# Altium schematic symbol library Kelboy.SchLib: 67 symbols (part 2 of 3)
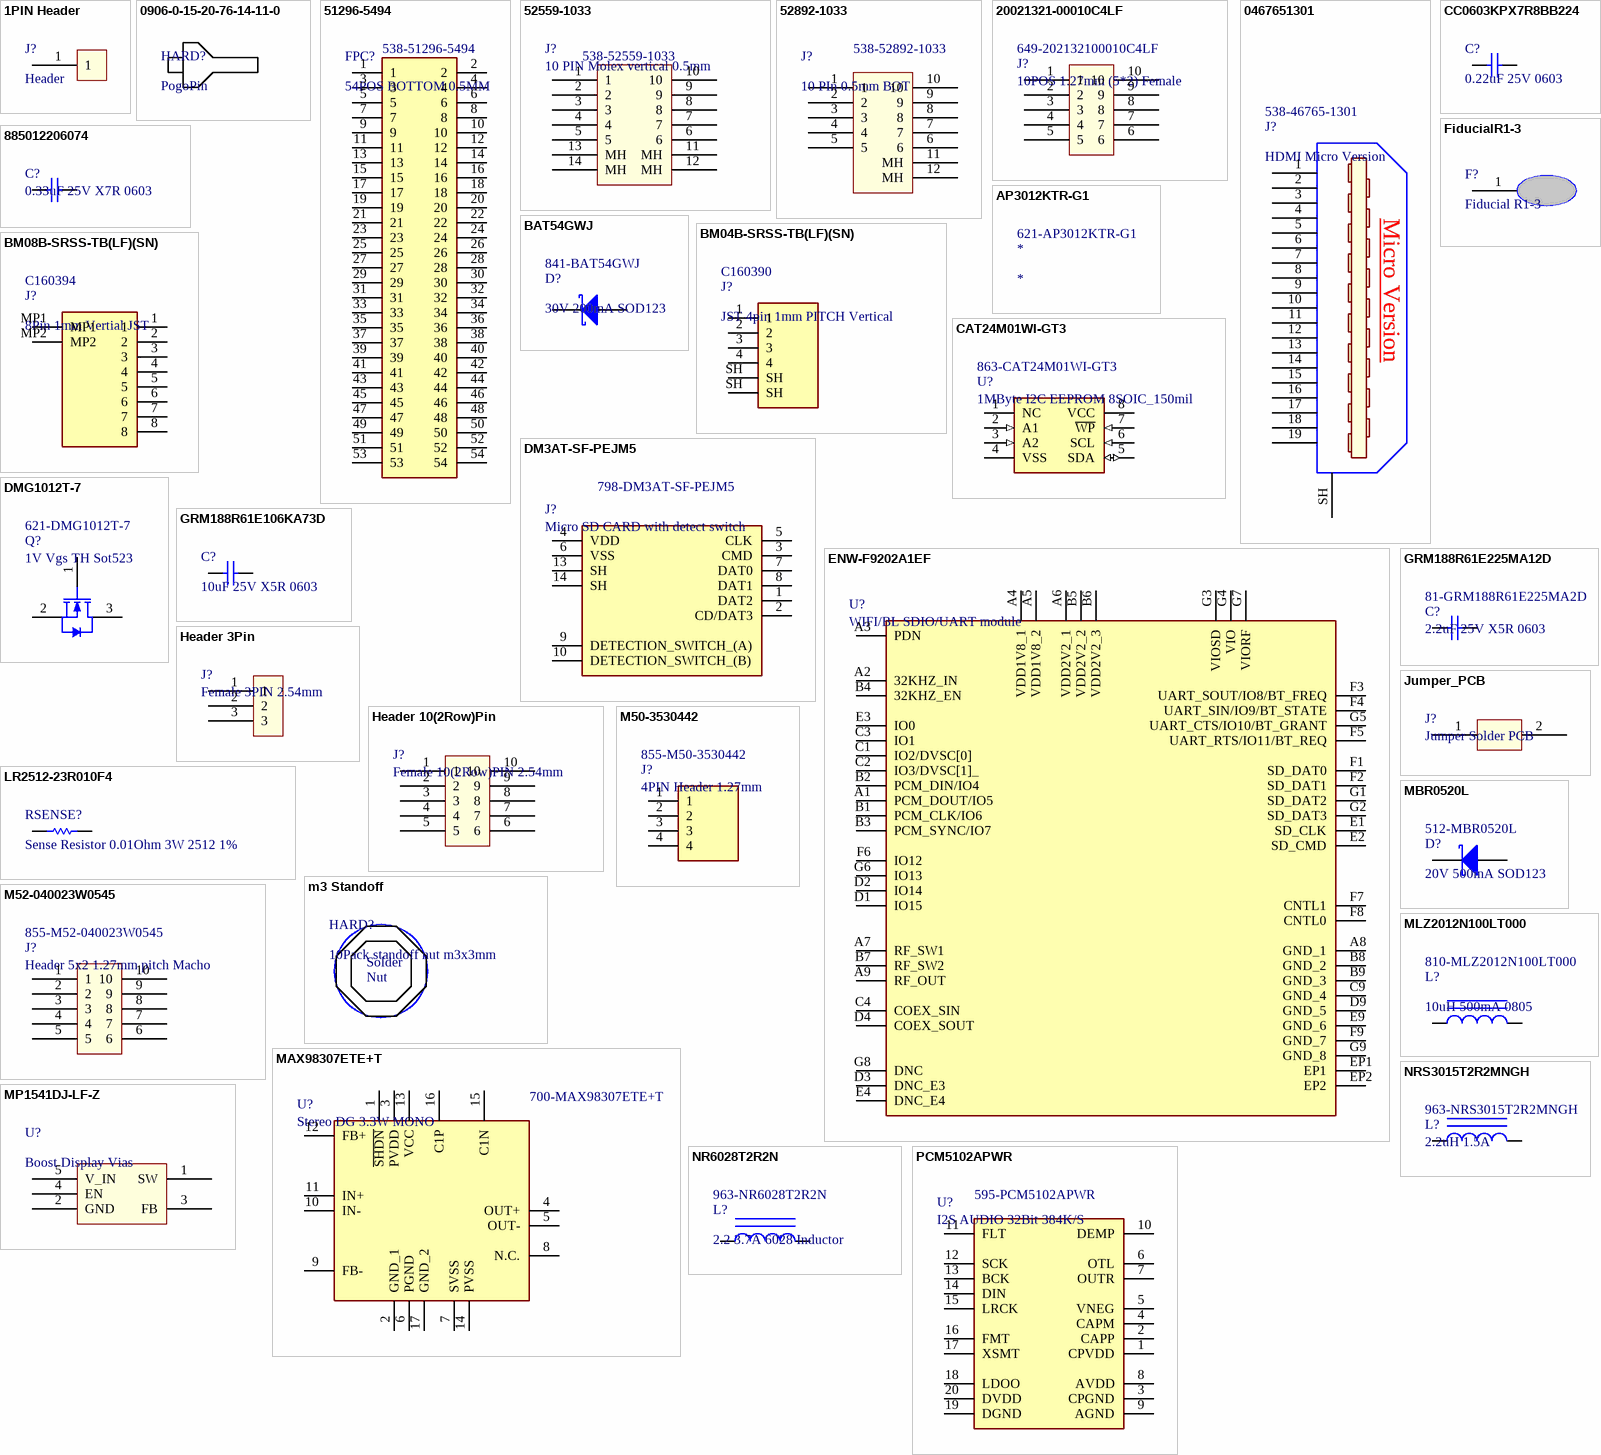
[diagram p3: symbols 1PIN Header to PCM5102APWR]

## PCM5102APWR
designator U?, comment I2S AUDIO 32Bit 384K/S  Supplier Part Number 1: 595-PCM5102APWR
IC DAC 16/24/32BIT SRL 20TSSOP; Manufacturer 1: Texas Instruments; Manufacturer Part Number 1: PCM5102APWR; Number of DAC Channels: 2; Max Power Dissipation: 187mW; Interface: Serial,I2S; Resolution: 32b; Signal to Noise Ratio (SNR): 112dB; Supply Type: Analog,Digital; Conversion Rate: 384KS/s; Power Consumption: 59.4mW; Max Supply Voltage: 3.6V; Operating Supply Voltage: 3.3V; Min Supply Voltage: 3V; Number of Analog Inputs: 0; Output Type: Voltage; Number of Bits: 32; Polarity: Unipolar; Supplier 1: Mouser; Stock 1: 3243; Pricing 1: 1=5,56000, 10=5,00000, 50=5,00000, 100=4,09000, 250=3,84000, 500=3,48000, 1000=2,94000, 2000=2,79000, 4000=2,68000, 10000=2,52000 (USD); RoHS: Yes; Mount: Surface Mount; Case/Package: TSSOP; Number of Pins: 20; Contact Plating: Gold; Min Operating Temperature: -25°C; Max Operating Temperature: 85°C; Package Quantity: 2000; Packaging: Tape and Reel; Number of Converters: 2; Number of Analog Outputs: 2; Sampling Rate: 384KS/s; Lead Free: Lead Free; REACH SVHC: No SVHC; ComponentLink1URL: https://datasheet.ciiva.com/24021/slas859a-261040-24021907.pdf?src-supplier=Mouser; ComponentLink1Description: https://datasheet.ciiva.com/24021/slas859a-261040-24021907.pdf?src-supplier=Mouser; ComponentLink2URL: https://datasheet.ciiva.com/29648/pcm5102a-29648362.pdf?src-supplier=Digi-Key; ComponentLink2Description: https://datasheet.ciiva.com/29648/pcm5102a-29648362.pdf?src-supplier=Digi-Key; ComponentLink3URL: https://datasheet.ciiva.com/6673/pcm5102a-6673611.pdf?src-supplier=Digi-Key; ComponentLink3Description: https://datasheet.ciiva.com/6673/pcm5102a-6673611.pdf?src-supplier=Digi-Key
footprint SOP65P640X120-20N
pins: 1 CPVDD, 2 CAPP, 3 CPGND, 4 CAPM, 5 VNEG, 6 OTL, 7 OUTR, 8 AVDD, 9 AGND, 10 DEMP, 11 FLT, 12 SCK, 13 BCK, 14 DIN, 15 LRCK, 16 FMT, 17 XSMT, 18 LDOO, 19 DGND, 20 DVDD

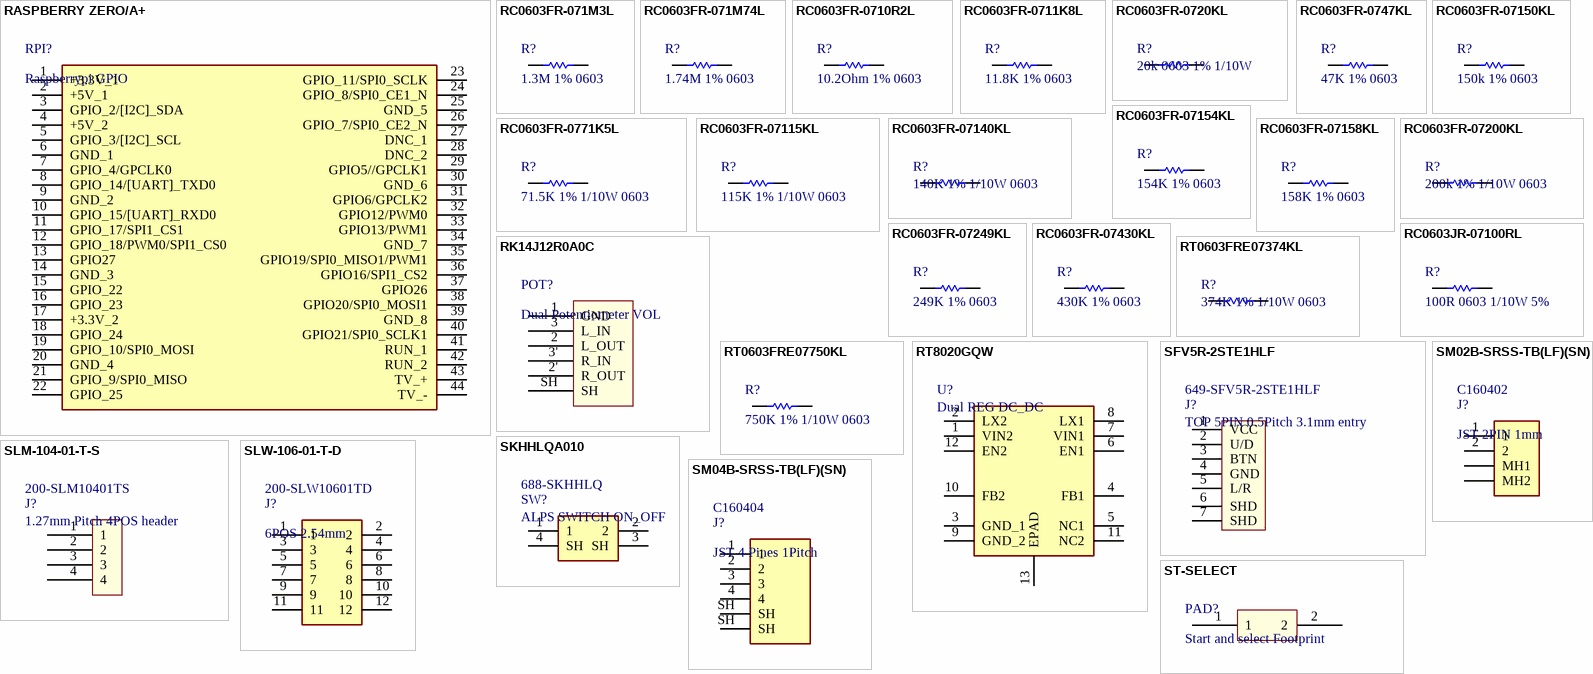
[diagram p1: symbols RASPBERRY ZERO/A+ to ST-SELECT]

## RASPBERRY ZERO/A+
designator RPI?, comment Raspberrypi GPIO
footprint RASPBERRYPIZEROWV13
pins: 1 +3.3V_1, 2 +5V_1, 3 GPIO_2/[I2C]_SDA, 4 +5V_2, 5 GPIO_3/[I2C]_SCL, 6 GND_1, 7 GPIO_4/GPCLK0, 8 GPIO_14/[UART]_TXD0, 9 GND_2, 10 GPIO_15/[UART]_RXD0, 11 GPIO_17/SPI1_CS1, 12 GPIO_18/PWM0/SPI1_CS0, 13 GPIO27, 14 GND_3, 15 GPIO_22, 16 GPIO_23, 17 +3.3V_2, 18 GPIO_24, 19 GPIO_10/SPI0_MOSI, 20 GND_4, 21 GPIO_9/SPI0_MISO, 22 GPIO_25, 23 GPIO_11/SPI0_SCLK, 24 GPIO_8/SPI0_CE1_N, 25 GND_5, 26 GPIO_7/SPI0_CE2_N, 27 DNC_1, 28 DNC_2, 29 GPIO5//GPCLK1, 30 GND_6, 31 GPIO6/GPCLK2, 32 GPIO12/PWM0, 33 GPIO13/PWM1, 34 GND_7, 35 GPIO19/SPI0_MISO1/PWM1, 36 GPIO16/SPI1_CS2, 37 GPIO26, 38 GPIO20/SPI0_MOSI1, 39 GND_8, 40 GPIO21/SPI0_SCLK1, 41 RUN_1, 42 RUN_2, 43 TV_+, 44 TV_-

## RC0603FR-071M3L
designator R?, comment 1.3M 1% 0603
Res Thick Film 0603 1.3M Ohm 1% 1/10W ?100ppm/C Molded SMD SMD Paper T/R; Manufacturer 1: Yageo; Manufacturer Part Number 1: RC0603FR-071M3L; Voltage Rating: 75V; Resistance: 1.3MR; Power Rating: 100mW; Temperature Coefficient: 100ppm/°C; Supplier 1: Mouser; Stock 1: 81570; Pricing 1: 1=0.10000, 10=0.01800, 50=0.01800, 100=0.00600, 1000=0.00500, 5000=0.00300, 10000=0.00300, 50000=0.00200 (USD); RoHS: Yes; Case/Package: 0603; Weight: 7.1E-05oz; Case Code (Imperial): 0603; Case Code (Metric): 1608; Min Operating Temperature: -55°C; Max Operating Temperature: 155°C; Packaging: Tape and Reel; Tolerance: 1%; Composition: Thick Film; Number of Terminations: 2; Termination: SMD/SMT; Military Standard: Not; Max Power Dissipation: 100mW; Features: Moisture Resistant; Length: 1.6mm; Height: 0.022inch; Width: 0.031inch; Depth: 0.8mm; Lead Free: Lead Free; ComponentLink1URL: http://components.arrow.com/part/dataview/0323_03542867?src-supplier=Arrow+Europe; ComponentLink1Description: http://components.arrow.com/part/dataview/0323_03542867?src-supplier=Arrow+Europe; ComponentLink2URL: http://www.mouser.com/ds/2/447/RC0603-272842.pdf?src-supplier=Mouser; ComponentLink2Description: http://www.mouser.com/ds/2/447/RC0603-272842.pdf?src-supplier=Mouser; ComponentLink3URL: http://www.yageo.com.tw/exep/pages/download/literatures/PYu-R_INT-thick_7.pdf?src-supplier=Digi-Key; ComponentLink3Description: http://www.yageo.com.tw/exep/pages/download/literatures/PYu-R_INT-thick_7.pdf?src-supplier=Digi-Key; ComponentLink4URL: http://www.yageo.com/documents/recent/PYu-RC_Group_51_RoHS_L_9.pdf?src-supplier=Digi-Key; ComponentLink4Description: http://www.yageo.com/documents/recent/PYu-RC_Group_51_RoHS_L_9.pdf?src-supplier=Digi-Key; Supplier Part Number 1: 603-RC0603FR-071M3L
footprint R 0603/1608
pins: 1, 2

## RC0603FR-071M74L
designator R?, comment 1.74M 1% 0603
Thick Film Resistors - SMD 1.74M OHM 1%; Manufacturer 1: Yageo; Manufacturer Part Number 1: RC0603FR-071M74L; Resistance: 1.74MR; Temperature Coefficient: 100ppm/°C; Power Rating: 100mW; Voltage Rating: 50V; Supplier 1: Mouser; Stock 1: 19263; Pricing 1: 1=0.10000, 10=0.01800, 50=0.01800, 100=0.00600, 1000=0.00500, 10000=0.00300 (USD); RoHS: Yes; Case/Package: 0603; Contact Plating: Tin; Case Code (Imperial): 0603; Case Code (Metric): 1608; Min Operating Temperature: -55°C; Max Operating Temperature: 155°C; Tolerance: 1%; Composition: Thick Film; Packaging: Tape and Reel; Termination: SMD/SMT; Number of Terminations: 2; Max Power Dissipation: 100mW; Features: Moisture Resistant; Length: 0.063inch; Height: 0.022inch; Width: 0.8mm; Radiation Hardening: No; ComponentLink1URL: https://datasheet.ciiva.com/12560/rc0603-272842-12560411.pdf?src-supplier=Mouser; ComponentLink1Description: https://datasheet.ciiva.com/12560/rc0603-272842-12560411.pdf?src-supplier=Mouser; Supplier Part Number 1: 603-RC0603FR-071M74L
footprint R 0603/1608
pins: 1, 2

## RC0603FR-0710R2L
designator R?, comment 10.2Ohm 1% 0603
RES SMD 10.2 OHM 1% 1/10W 0603; Manufacturer 1: Yageo; Manufacturer Part Number 1: RC0603FR-0710R2L; Resistance: 10.2R; Temperature Coefficient: 100ppm/°C; Power Rating: 100mW; Voltage Rating: 50V; Supplier 1: Mouser; Stock 1: 27905; Pricing 1: 1=0.10000, 10=0.01800, 50=0.01800, 100=0.00600, 1000=0.00500, 5000=0.00300, 10000=0.00300, 50000=0.00200 (USD); RoHS: Yes; Case/Package: 0603; Contact Plating: Tin; Case Code (Imperial): 0603; Case Code (Metric): 1608; Min Operating Temperature: -55°C; Max Operating Temperature: 155°C; Tolerance: 1%; Composition: Thick Film; Packaging: Tape and Reel; Termination: SMD/SMT; Military Standard: Not; Voltage Rating (DC): 50V; Length: 1.6mm; Height: 0.45mm; Width: 0.8mm; Depth: 0.8mm; Radiation Hardening: No; Lead Free: Lead Free; ComponentLink1URL: https://datasheet.ciiva.com/12575/rc0603-272842-12575110.pdf?src-supplier=Mouser; ComponentLink1Description: https://datasheet.ciiva.com/12575/rc0603-272842-12575110.pdf?src-supplier=Mouser; Supplier Part Number 1: 603-RC0603FR-0710R2L
footprint R 0603/1608
pins: 1, 2

## RC0603FR-0711K8L
designator R?, comment 11.8K 1% 0603
RES SMD 11.8K OHM 1% 1/10W 0603; Manufacturer 1: Yageo; Manufacturer Part Number 1: RC0603FR-0711K8L; Resistance: 11.8kR; Power Rating: 100mW; Voltage Rating: 50V; Temperature Coefficient: 100ppm/°C; Supplier 1: Mouser; Stock 1: 216746; Pricing 1: 1=0.10000, 10=0.01800, 50=0.01800, 100=0.00600, 1000=0.00500, 10000=0.00300 (USD); RoHS: Yes; Case/Package: 0603; Case Code (Imperial): 0603; Case Code (Metric): 1608; Min Operating Temperature: -55°C; Max Operating Temperature: 155°C; Tolerance: 1%; Packaging: Tape and Reel; Termination: SMD/SMT; Composition: Thick Film; Military Standard: Not; Voltage Rating (DC): 50V; Length: 1.6mm; Depth: 0.8mm; Lead Free: Lead Free; ComponentLink1URL: http://www.mouser.com/ds/2/447/RC0603-272842.pdf?src-supplier=Mouser; ComponentLink1Description: http://www.mouser.com/ds/2/447/RC0603-272842.pdf?src-supplier=Mouser; ComponentLink2URL: http://components.arrow.com/part/dataview/0323_03538290?src-supplier=Arrow+Europe; ComponentLink2Description: http://components.arrow.com/part/dataview/0323_03538290?src-supplier=Arrow+Europe; ComponentLink3URL: http://www.yageo.com/documents/recent/PYu-RC_Group_51_RoHS_L_9.pdf?src-supplier=Digi-Key; ComponentLink3Description: http://www.yageo.com/documents/recent/PYu-RC_Group_51_RoHS_L_9.pdf?src-supplier=Digi-Key; ComponentLink4URL: http://www.yageo.com/documents/recent/PYu-RC_Group_51_RoHS_L_10.pdf?src-supplier=Digi-Key; ComponentLink4Description: http://www.yageo.com/documents/recent/PYu-RC_Group_51_RoHS_L_10.pdf?src-supplier=Digi-Key; ComponentLink5URL: http://www.yageo.com/documents/recent/PYu-RC0603_51_RoHS_L_7.pdf?src-supplier=Future+Electronics; ComponentLink5Description: http://www.yageo.com/documents/recent/PYu-RC0603_51_RoHS_L_7.pdf?src-supplier=Future+Electronics; Supplier Part Number 1: 603-RC0603FR-0711K8L
footprint R 0603/1608
pins: 1, 2

## RC0603FR-0720KL
designator R?, comment 20k 0603 1% 1/10W
RES SMD 20K OHM 1% 1/10W 0603; Manufacturer 1: Yageo; Manufacturer Part Number 1: RC0603FR-0720KL; Resistance: 20kR; Temperature Coefficient: 100ppm/°C; Voltage Rating (DC): 50V; Power Rating: 100mW; Supplier 1: Mouser; RoHS: Yes; Category: Chip SMD Resistors; Stock 1: 754329; Pricing 1: 1=0,10000, 10=0,01800, 100=0,00600, 1000=0,00500, 5000=0,00300, 10000=0,00300 (USD); Case/Package: 0603; Number of Pins: 2; Case Code (Imperial): 0603; Case Code (Metric): 1608; Min Operating Temperature: -55°C; Max Operating Temperature: 155°C; Tolerance: 1%; Composition: Thick Film; Packaging: Tape and Reel; Voltage Rating: 50V; Package Quantity: 1; Termination: SMD/SMT; Number of Terminations: 2; Military Standard: Not; Max Power Dissipation: 100mW; Features: Moisture Resistant; Length: 0.063inch; Height: 0.022inch; Width: 0.031inch; Depth: 0.8mm; Lead Free: Lead Free; REACH SVHC: No SVHC; ComponentLink1URL: https://datasheet.ciiva.com/11808/0900766b80f96399-11808275.pdf?src-supplier=RSComponents; ComponentLink1Description: https://datasheet.ciiva.com/11808/0900766b80f96399-11808275.pdf?src-supplier=RSComponents; ComponentLink2URL: https://datasheet.ciiva.com/22747/443971-22747525.pdf?src-supplier=Element14; ComponentLink2Description: https://datasheet.ciiva.com/22747/443971-22747525.pdf?src-supplier=Element14; ComponentLink3URL: https://datasheet.ciiva.com/2453/pyu-r-int-thick-7-2453910.pdf?src-supplier=Digi-Key; ComponentLink3Description: https://datasheet.ciiva.com/2453/pyu-r-int-thick-7-2453910.pdf?src-supplier=Digi-Key; ComponentLink4URL: https://datasheet.ciiva.com/2453/pyu-r-int-thick-7-2453911.pdf?src-supplier=Digi-Key; ComponentLink4Description: https://datasheet.ciiva.com/2453/pyu-r-int-thick-7-2453911.pdf?src-supplier=Digi-Key; ComponentLink5URL: https://datasheet.ciiva.com/2453/pyu-r-int-thick-7-2453912.pdf?src-supplier=Digi-Key; ComponentLink5Description: https://datasheet.ciiva.com/2453/pyu-r-int-thick-7-2453912.pdf?src-supplier=Digi-Key; Supplier Part Number 1: 603-RC0603FR-0720KL
footprint R 0603/1608
pins: 1, 2

## RC0603FR-0747KL
designator R?, comment 47K 1% 0603
RES SMD 47K OHM 1% 1/10W 0603; Manufacturer 1: Yageo; Manufacturer Part Number 1: RC0603FR-0747KL; Resistance: 47kR; Temperature Coefficient: 100ppm/°C; Voltage Rating (DC): 50V; Power Rating: 100mW; Supplier 1: Mouser; Stock 1: 2958829; Pricing 1: 1=0.10000, 10=0.01800, 50=0.01800, 100=0.00600, 1000=0.00500, 5000=0.00300, 10000=0.00300, 50000=0.00200 (USD); RoHS: Yes; Case/Package: 0603; Number of Pins: 2; Case Code (Metric): 1608; Case Code (Imperial): 0603; Min Operating Temperature: -55°C; Max Operating Temperature: 155°C; Tolerance: 1%; Composition: Thick Film; Packaging: Tape and Reel; Voltage Rating: 50V; Package Quantity: 1; Number of Terminations: 2; Termination: SMD/SMT; Military Standard: Not; Max Power Dissipation: 100mW; Features: Moisture Resistant; Length: 1.6mm; Height: 0.022inch; Width: 0.031inch; Depth: 0.8mm; REACH SVHC: Unknown; Lead Free: Lead Free; ComponentLink1URL: https://datasheet.ciiva.com/11808/0900766b80f96399-11808118.pdf?src-supplier=RSComponents; ComponentLink1Description: https://datasheet.ciiva.com/11808/0900766b80f96399-11808118.pdf?src-supplier=RSComponents; ComponentLink2URL: https://datasheet.ciiva.com/7746/443971-7746361.pdf?src-supplier=Element14; ComponentLink2Description: https://datasheet.ciiva.com/7746/443971-7746361.pdf?src-supplier=Element14; ComponentLink3URL: https://datasheet.ciiva.com/7746/443971-7746362.pdf?src-supplier=Element14; ComponentLink3Description: https://datasheet.ciiva.com/7746/443971-7746362.pdf?src-supplier=Element14; ComponentLink4URL: https://datasheet.ciiva.com/2453/pyu-r-int-thick-7-2453931.pdf?src-supplier=Digi-Key; ComponentLink4Description: https://datasheet.ciiva.com/2453/pyu-r-int-thick-7-2453931.pdf?src-supplier=Digi-Key; ComponentLink5URL: https://datasheet.ciiva.com/2453/pyu-r-int-thick-7-2453932.pdf?src-supplier=Digi-Key; ComponentLink5Description: https://datasheet.ciiva.com/2453/pyu-r-int-thick-7-2453932.pdf?src-supplier=Digi-Key; ComponentLink6URL: https://datasheet.ciiva.com/2453/pyu-r-int-thick-7-2453933.pdf?src-supplier=Digi-Key; ComponentLink6Description: https://datasheet.ciiva.com/2453/pyu-r-int-thick-7-2453933.pdf?src-supplier=Digi-Key; Supplier Part Number 1: 603-RC0603FR-0747KL
footprint R 0603/1608
pins: 1, 2

## RC0603FR-0771K5L
designator R?, comment 71.5K 1% 1/10W 0603
RES SMD 71.5K OHM 1% 1/10W 0603; Manufacturer 1: Yageo; Manufacturer Part Number 1: RC0603FR-0771K5L; Resistance: 71.5kR; Power Rating: 100mW; Voltage Rating: 75V; Temperature Coefficient: 100ppm/°C; Voltage Rating (DC): 50V; Supplier 1: Mouser; Stock 1: 99016; Pricing 1: 1=0,10000, 10=0,01800, 50=0,01800, 100=0,00600, 1000=0,00500, 5000=0,00300, 10000=0,00300, 50000=0,00200 (USD); RoHS: Yes; Case/Package: 0603; Weight: 7.1E-05oz; Case Code (Metric): 1608; Case Code (Imperial): 0603; Min Operating Temperature: -55°C; Max Operating Temperature: 155°C; Package Quantity: 1; Tolerance: 1%; Packaging: Tape and Reel; Composition: Thick Film; Number of Terminations: 2; Termination: SMD/SMT; Max Power Dissipation: 100mW; Features: Moisture Resistant; Length: 0.063inch; Height: 0.022inch; Width: 0.031inch; Lead Free: Lead Free; ComponentLink1URL: https://datasheet.ciiva.com/2455/pyu-r-int-thick-7-2455233.pdf?src-supplier=Digi-Key; ComponentLink1Description: https://datasheet.ciiva.com/2455/pyu-r-int-thick-7-2455233.pdf?src-supplier=Digi-Key; ComponentLink2URL: https://datasheet.ciiva.com/2455/pyu-r-int-thick-7-2455234.pdf?src-supplier=Digi-Key; ComponentLink2Description: https://datasheet.ciiva.com/2455/pyu-r-int-thick-7-2455234.pdf?src-supplier=Digi-Key; ComponentLink3URL: https://datasheet.ciiva.com/2455/pyu-r-int-thick-7-2455235.pdf?src-supplier=Digi-Key; ComponentLink3Description: https://datasheet.ciiva.com/2455/pyu-r-int-thick-7-2455235.pdf?src-supplier=Digi-Key; Supplier Part Number 1: 603-RC0603FR-0771K5L
footprint R 0603/1608
pins: 1, 2

## RC0603FR-07115KL
designator R?, comment 115K 1% 1/10W 0603
RES SMD 115K OHM 1% 1/10W 0603; Manufacturer 1: Yageo; Manufacturer Part Number 1: RC0603FR-07115KL; Resistance: 115kR; Temperature Coefficient: 100ppm/°C; Power Rating: 100mW; Voltage Rating: 50V; Supplier 1: Mouser; Stock 1: 33101; Pricing 1: 1=0,10000, 10=0,01800, 50=0,01800, 100=0,00600, 1000=0,00500, 10000=0,00300 (USD); RoHS: Yes; Case/Package: 0603; Contact Plating: Tin,Matte; Case Code (Metric): 1608; Case Code (Imperial): 0603; Min Operating Temperature: -55°C; Max Operating Temperature: 155°C; Tolerance: 1%; Composition: Thick Film; Package Quantity: 1; Packaging: Tape and Reel; Number of Terminations: 2; Termination: SMD/SMT; Military Standard: Not; Max Power Dissipation: 100mW; Voltage Rating (DC): 50V; Features: Moisture Resistant; Length: 0.063inch; Height: 0.022inch; Width: 0.031inch; Depth: 0.8mm; Lead Free: Lead Free; ComponentLink1URL: https://datasheet.ciiva.com/2455/pyu-r-int-thick-7-2455088.pdf?src-supplier=Digi-Key; ComponentLink1Description: https://datasheet.ciiva.com/2455/pyu-r-int-thick-7-2455088.pdf?src-supplier=Digi-Key; ComponentLink2URL: https://datasheet.ciiva.com/8887/pyu-rc0603-51-rohs-l-4-8887692.pdf?src-supplier=Avnet; ComponentLink2Description: https://datasheet.ciiva.com/8887/pyu-rc0603-51-rohs-l-4-8887692.pdf?src-supplier=Avnet; ComponentLink3URL: https://datasheet.ciiva.com/28394/pyu-rc0603-51-rohs-l-4-28394989.pdf?src-supplier=Avnet+Europe; ComponentLink3Description: https://datasheet.ciiva.com/28394/pyu-rc0603-51-rohs-l-4-28394989.pdf?src-supplier=Avnet+Europe; ComponentLink4URL: https://datasheet.ciiva.com/2455/pyu-r-int-thick-7-2455086.pdf?src-supplier=Digi-Key; ComponentLink4Description: https://datasheet.ciiva.com/2455/pyu-r-int-thick-7-2455086.pdf?src-supplier=Digi-Key; ComponentLink5URL: https://datasheet.ciiva.com/2455/pyu-r-int-thick-7-2455087.pdf?src-supplier=Digi-Key; ComponentLink5Description: https://datasheet.ciiva.com/2455/pyu-r-int-thick-7-2455087.pdf?src-supplier=Digi-Key; Supplier Part Number 1: 603-RC0603FR-07115KL
footprint R 0603/1608
pins: 1, 2

## RC0603FR-07140KL
designator R?, comment 140K 1% 1/10W 0603
RES SMD 140K OHM 1% 1/10W 0603; Manufacturer 1: Yageo; Manufacturer Part Number 1: RC0603FR-07140KL; Power Rating: 100mW; Resistance: 140kR; Voltage Rating: 50V; Temperature Coefficient: 100ppm/°C; Supplier 1: Mouser; Stock 1: 123280; Pricing 1: 1=0,10000, 10=0,01800, 50=0,01800, 100=0,00600, 1000=0,00500, 10000=0,00300 (USD); RoHS: Yes; Case/Package: 0603; Case Code (Imperial): 0603; Case Code (Metric): 1608; Min Operating Temperature: -55°C; Max Operating Temperature: 155°C; Package Quantity: 1; Tolerance: 1%; Packaging: Tape and Reel; Termination: SMD/SMT; Composition: Thick Film; Number of Terminations: 2; Military Standard: Not; Max Power Dissipation: 100mW; Voltage Rating (DC): 50V; Features: Moisture Resistant; Length: 1.6mm; Height: 0.022inch; Width: 0.8mm; Depth: 0.8mm; Lead Free: Lead Free; ComponentLink1URL: https://datasheet.ciiva.com/2453/pyu-r-int-thick-7-2453916.pdf?src-supplier=Digi-Key; ComponentLink1Description: https://datasheet.ciiva.com/2453/pyu-r-int-thick-7-2453916.pdf?src-supplier=Digi-Key; ComponentLink2URL: https://datasheet.ciiva.com/2453/pyu-r-int-thick-7-2453917.pdf?src-supplier=Digi-Key; ComponentLink2Description: https://datasheet.ciiva.com/2453/pyu-r-int-thick-7-2453917.pdf?src-supplier=Digi-Key; ComponentLink3URL: https://datasheet.ciiva.com/2453/pyu-r-int-thick-7-2453918.pdf?src-supplier=Digi-Key; ComponentLink3Description: https://datasheet.ciiva.com/2453/pyu-r-int-thick-7-2453918.pdf?src-supplier=Digi-Key; Supplier Part Number 1: 603-RC0603FR-07140KL
footprint R 0603/1608
pins: 1, 2

## RC0603FR-07150KL
designator R?, comment 150k 1% 0603
RES SMD 150K OHM 1% 1/10W 0603; Manufacturer 1: Yageo; Manufacturer Part Number 1: RC0603FR-07150KL; Resistance: 150kR; Temperature Coefficient: 100ppm/°C; Voltage Rating (DC): 50V; Power Rating: 100mW; Supplier 1: Mouser; Stock 1: 988890; Pricing 1: 1=0.10000, 10=0.01800, 50=0.01800, 100=0.00600, 1000=0.00500, 10000=0.00300 (USD); RoHS: Yes; Case/Package: 0603; Number of Pins: 2; Case Code (Metric): 1608; Case Code (Imperial): 0603; Min Operating Temperature: -55°C; Max Operating Temperature: 155°C; Tolerance: 1%; Composition: Thick Film; Packaging: Tape and Reel; Package Quantity: 1; Voltage Rating: 50V; Number of Terminations: 2; Termination: SMD/SMT; Military Standard: Not; Max Power Dissipation: 100mW; Features: Moisture Resistant; Length: 0.063inch; Height: 0.022inch; Width: 0.031inch; Depth: 0.8mm; REACH SVHC: No SVHC; Lead Free: Lead Free; ComponentLink1URL: https://datasheet.ciiva.com/15189/getdatasheetpartid-326478-15189611.pdf?src-supplier=Verical; ComponentLink1Description: https://datasheet.ciiva.com/15189/getdatasheetpartid-326478-15189611.pdf?src-supplier=Verical; ComponentLink2URL: https://datasheet.ciiva.com/7746/443971-7746255.pdf?src-supplier=Element14; ComponentLink2Description: https://datasheet.ciiva.com/7746/443971-7746255.pdf?src-supplier=Element14; ComponentLink3URL: https://datasheet.ciiva.com/2454/pyu-r-int-thick-7-2454080.pdf?src-supplier=Digi-Key; ComponentLink3Description: https://datasheet.ciiva.com/2454/pyu-r-int-thick-7-2454080.pdf?src-supplier=Digi-Key; ComponentLink4URL: https://datasheet.ciiva.com/46412/443971-46412843.pdf?src-supplier=Element14; ComponentLink4Description: https://datasheet.ciiva.com/46412/443971-46412843.pdf?src-supplier=Element14; ComponentLink5URL: https://datasheet.ciiva.com/46440/1868787-46440892.pdf?src-supplier=Element14; ComponentLink5Description: https://datasheet.ciiva.com/46440/1868787-46440892.pdf?src-supplier=Element14; ComponentLink6URL: https://datasheet.ciiva.com/2454/pyu-r-int-thick-7-2454078.pdf?src-supplier=Digi-Key; ComponentLink6Description: https://datasheet.ciiva.com/2454/pyu-r-int-thick-7-2454078.pdf?src-supplier=Digi-Key; ComponentLink7URL: https://datasheet.ciiva.com/7746/443971-7746254.pdf?src-supplier=Element14; ComponentLink7Description: https://datasheet.ciiva.com/7746/443971-7746254.pdf?src-supplier=Element14; ComponentLink8URL: https://datasheet.ciiva.com/2454/pyu-r-int-thick-7-2454079.pdf?src-supplier=Digi-Key; ComponentLink8Description: https://datasheet.ciiva.com/2454/pyu-r-int-thick-7-2454079.pdf?src-supplier=Digi-Key; Supplier Part Number 1: 603-RC0603FR-07150KL
footprint R 0603/1608
pins: 1, 2

## RC0603FR-07154KL
designator R?, comment 154K 1% 0603
RES SMD 154K OHM 1% 1/10W 0603; Manufacturer 1: Yageo; Manufacturer Part Number 1: RC0603FR-07154KL; Resistance: 154kR; Power Rating: 100mW; Voltage Rating: 50V; Temperature Coefficient: 100ppm/°C; Supplier 1: Mouser; Stock 1: 43552; Pricing 1: 1=0.10000, 10=0.01800, 50=0.01800, 100=0.00600, 1000=0.00500, 10000=0.00300 (USD); RoHS: Yes; Mount: Surface Mount; Case/Package: 0603; Case Code (Metric): 1608; Case Code (Imperial): 0603; Min Operating Temperature: -55°C; Max Operating Temperature: 155°C; Package Quantity: 1; Tolerance: 1%; Packaging: Tape and Reel; Composition: Thick Film; Number of Terminations: 2; Termination: SMD/SMT; Military Standard: Not; Max Power Dissipation: 100mW; Voltage Rating (DC): 50V; Features: Moisture Resistant; Length: 1.6mm; Height: 0.022inch; Width: 0.031inch; Depth: 0.8mm; Lead Free: Lead Free; ComponentLink1URL: https://datasheet.ciiva.com/11808/0900766b80f96399-11808415.pdf?src-supplier=RSComponents; ComponentLink1Description: https://datasheet.ciiva.com/11808/0900766b80f96399-11808415.pdf?src-supplier=RSComponents; ComponentLink2URL: https://datasheet.ciiva.com/2454/pyu-r-int-thick-7-2454579.pdf?src-supplier=Digi-Key; ComponentLink2Description: https://datasheet.ciiva.com/2454/pyu-r-int-thick-7-2454579.pdf?src-supplier=Digi-Key; ComponentLink3URL: https://datasheet.ciiva.com/2454/pyu-r-int-thick-7-2454580.pdf?src-supplier=Digi-Key; ComponentLink3Description: https://datasheet.ciiva.com/2454/pyu-r-int-thick-7-2454580.pdf?src-supplier=Digi-Key; ComponentLink4URL: https://datasheet.ciiva.com/2454/pyu-r-int-thick-7-2454581.pdf?src-supplier=Digi-Key; ComponentLink4Description: https://datasheet.ciiva.com/2454/pyu-r-int-thick-7-2454581.pdf?src-supplier=Digi-Key; Supplier Part Number 1: 603-RC0603FR-07154KL
footprint R 0603/1608
pins: 1, 2

## RC0603FR-07158KL
designator R?, comment 158K 1% 0603
RES SMD 158K OHM 1% 1/10W 0603; Manufacturer 1: Yageo; Manufacturer Part Number 1: RC0603FR-07158KL; Resistance: 158kR; Power Rating: 100mW; Voltage Rating: 50V; Temperature Coefficient: 100ppm/°C; Working Voltage: 75V; Supplier 1: Mouser; Stock 1: 93833; Pricing 1: 1=0.10000, 10=0.01800, 50=0.01800, 100=0.00600, 1000=0.00500, 10000=0.00300 (USD); RoHS: Yes; Case/Package: 0603; Case Code (Imperial): 0603; Case Code (Metric): 1608; Min Operating Temperature: -55°C; Max Operating Temperature: 155°C; Tolerance: 1%; Packaging: Tape and Reel; Package Quantity: 5000; Termination: SMD/SMT; Composition: Thick Film; Military Standard: Not; Voltage Rating (DC): 50V; Number of Terminations: 2; Length: 1.6mm; Height: 0.45mm; Width: 0.8mm; Depth: 0.8mm; Lead Free: Lead Free; ComponentLink1URL: https://datasheet.ciiva.com/12558/rc0603-272842-12558286.pdf?src-supplier=Mouser; ComponentLink1Description: https://datasheet.ciiva.com/12558/rc0603-272842-12558286.pdf?src-supplier=Mouser; Supplier Part Number 1: 603-RC0603FR-07158KL
footprint R 0603/1608
pins: 1, 2

## RC0603FR-07200KL
designator R?, comment 200k 1% 1/10W 0603
RES SMD 200K OHM 1% 1/10W 0603; Manufacturer 1: Yageo; Manufacturer Part Number 1: RC0603FR-07200KL; Resistance: 200kR; Temperature Coefficient: 100ppm/°C; Voltage Rating (DC): 50V; Power Rating: 100mW; Supplier 1: Mouser; Stock 1: 678926; Pricing 1: 1=0,10000, 10=0,01800, 50=0,01800, 100=0,00600, 1000=0,00500, 5000=0,00300, 10000=0,00300, 50000=0,00200 (USD); RoHS: Yes; Case/Package: 0603; Number of Pins: 2; Case Code (Metric): 1608; Case Code (Imperial): 0603; Min Operating Temperature: -55°C; Max Operating Temperature: 155°C; Tolerance: 1%; Packaging: Tape and Reel; Composition: Thick Film; Voltage Rating: 50V; Package Quantity: 1; Number of Terminations: 2; Termination: SMD/SMT; Military Standard: Not; Max Power Dissipation: 100mW; Features: Moisture Resistant; Length: 1.6mm; Height: 0.022inch; Width: 0.031inch; Depth: 0.8mm; Lead Free: Lead Free; REACH SVHC: No SVHC; ComponentLink1URL: https://datasheet.ciiva.com/2453/pyu-r-int-thick-7-2453958.pdf?src-supplier=Digi-Key; ComponentLink1Description: https://datasheet.ciiva.com/2453/pyu-r-int-thick-7-2453958.pdf?src-supplier=Digi-Key; ComponentLink2URL: https://datasheet.ciiva.com/2453/pyu-r-int-thick-7-2453959.pdf?src-supplier=Digi-Key; ComponentLink2Description: https://datasheet.ciiva.com/2453/pyu-r-int-thick-7-2453959.pdf?src-supplier=Digi-Key; ComponentLink3URL: https://datasheet.ciiva.com/2453/pyu-r-int-thick-7-2453960.pdf?src-supplier=Digi-Key; ComponentLink3Description: https://datasheet.ciiva.com/2453/pyu-r-int-thick-7-2453960.pdf?src-supplier=Digi-Key; Supplier Part Number 1: 603-RC0603FR-07200KL
footprint R 0603/1608
pins: 1, 2

## RC0603FR-07249KL
designator R?, comment 249K 1% 0603
RES SMD 249K OHM 1% 1/10W 0603; Manufacturer 1: Yageo; Manufacturer Part Number 1: RC0603FR-07249KL; Voltage Rating: 50V; Resistance: 249kR; Power Rating: 100mW; Temperature Coefficient: 100ppm/°C; Supplier 1: Mouser; Stock 1: 139173; Pricing 1: 1=0.10000, 10=0.01800, 50=0.01800, 100=0.00600, 1000=0.00500, 10000=0.00300 (USD); RoHS: Yes; Mount: Surface Mount; Case/Package: 0603; Case Code (Imperial): 0603; Case Code (Metric): 1608; Min Operating Temperature: -55°C; Max Operating Temperature: 155°C; Packaging: Tape and Reel; Package Quantity: 1; Tolerance: 1%; Termination: SMD/SMT; Composition: Thick Film; Number of Terminations: 2; Military Standard: Not; Max Power Dissipation: 100mW; Voltage Rating (DC): 50V; Features: Moisture Resistant; Length: 1.6mm; Height: 0.022inch; Width: 0.031inch; Depth: 0.8mm; Lead Free: Lead Free; ComponentLink1URL: https://datasheet.ciiva.com/15189/getdatasheetpartid-326394-15189668.pdf?src-supplier=Verical; ComponentLink1Description: https://datasheet.ciiva.com/15189/getdatasheetpartid-326394-15189668.pdf?src-supplier=Verical; ComponentLink2URL: https://datasheet.ciiva.com/11819/0900766b80f96399-11819317.pdf?src-supplier=RSComponents; ComponentLink2Description: https://datasheet.ciiva.com/11819/0900766b80f96399-11819317.pdf?src-supplier=RSComponents; ComponentLink3URL: https://datasheet.ciiva.com/2454/pyu-r-int-thick-7-2454594.pdf?src-supplier=Digi-Key; ComponentLink3Description: https://datasheet.ciiva.com/2454/pyu-r-int-thick-7-2454594.pdf?src-supplier=Digi-Key; ComponentLink4URL: https://datasheet.ciiva.com/2454/pyu-r-int-thick-7-2454595.pdf?src-supplier=Digi-Key; ComponentLink4Description: https://datasheet.ciiva.com/2454/pyu-r-int-thick-7-2454595.pdf?src-supplier=Digi-Key; ComponentLink5URL: https://datasheet.ciiva.com/2454/pyu-r-int-thick-7-2454596.pdf?src-supplier=Digi-Key; ComponentLink5Description: https://datasheet.ciiva.com/2454/pyu-r-int-thick-7-2454596.pdf?src-supplier=Digi-Key; Supplier Part Number 1: 603-RC0603FR-07249KL
footprint R 0603/1608
pins: 1, 2

## RC0603FR-07430KL
designator R?, comment 430K 1% 0603
RES SMD 430K OHM 1% 1/10W 0603; Manufacturer 1: Yageo; Manufacturer Part Number 1: RC0603FR-07430KL; Resistance: 430kR; Power Rating: 100mW; Voltage Rating: 75V; Temperature Coefficient: 100ppm/°C; Voltage Rating (DC): 50V; Supplier 1: Mouser; Stock 1: 81453; Pricing 1: 1=0.10000, 10=0.01800, 50=0.01800, 100=0.00600, 1000=0.00500, 5000=0.00300, 10000=0.00300, 50000=0.00200 (USD); RoHS: Yes; Case/Package: 0603; Weight: 7.1E-05oz; Case Code (Imperial): 0603; Case Code (Metric): 1608; Min Operating Temperature: -55°C; Max Operating Temperature: 155°C; Tolerance: 1%; Packaging: Tape and Reel; Termination: SMD/SMT; Composition: Thick Film; Military Standard: Not; Length: 1.6mm; Height: 0.45mm; Width: 0.8mm; Depth: 0.8mm; Lead Free: Lead Free; ComponentLink1URL: http://components.arrow.com/part/dataview/0323_00047473?src-supplier=Arrow+Europe; ComponentLink1Description: http://components.arrow.com/part/dataview/0323_00047473?src-supplier=Arrow+Europe; ComponentLink2URL: http://www.mouser.com/ds/2/447/RC0603-272842.pdf?src-supplier=Mouser; ComponentLink2Description: http://www.mouser.com/ds/2/447/RC0603-272842.pdf?src-supplier=Mouser; ComponentLink3URL: http://www.yageo.com/documents/recent/PYu-RC_Group_51_RoHS_L_9.pdf?src-supplier=Digi-Key; ComponentLink3Description: http://www.yageo.com/documents/recent/PYu-RC_Group_51_RoHS_L_9.pdf?src-supplier=Digi-Key; ComponentLink4URL: http://www.yageo.com/documents/recent/PYu-RC_Group_51_RoHS_L_10.pdf?src-supplier=Digi-Key; ComponentLink4Description: http://www.yageo.com/documents/recent/PYu-RC_Group_51_RoHS_L_10.pdf?src-supplier=Digi-Key; Supplier Part Number 1: 603-RC0603FR-07430KL
footprint R 0603/1608
pins: 1, 2

## RC0603JR-07100RL
designator R?, comment 100R 0603 1/10W 5%
Res Thick Film 0603 100 Ohm 5% 0.1W(1/10W) ±100ppm/C Molded SMD Paper T/R; Manufacturer: Yageo; Manufacturer Part Number: RC0603JR-07100RL; Temperature Coefficient: 100ppm/°C; Voltage Rating (DC): 50V; Power Rating: 100mW; Supplier 1: Mouser; RoHS: Yes; Category: Chip SMD Resistors; Stock 1: 3047216; Case/Package: 0603; Number of Pins: 2; Contact Plating: Tin,Matte; Case Code (Imperial): 0603; Case Code (Metric): 1608; Min Operating Temperature: -55°C; Max Operating Temperature: 155°C; Resistance: 100R; Tolerance: 5%; Resistor Type: Thick Film; Packaging: Tape and Reel; Voltage Rating: 50V; Termination: SMD/SMT; Length: 1.6mm; Width: 0.8mm; Depth: 0.8mm; Radiation Hardening: No; REACH SVHC: Unknown; Lead Free: Lead Free; Military Standard: Not; ComponentLink1URL: https://datasheet.ciiva.com/15189/getdatasheetpartid-325207-15189846.pdf?src-supplier=Verical; ComponentLink1Description: https://datasheet.ciiva.com/15189/getdatasheetpartid-325207-15189846.pdf?src-supplier=Verical; ComponentLink2URL: https://datasheet.ciiva.com/8883/pyu-rc0603-51-rohs-l-4-8883047.pdf?src-supplier=Avnet; ComponentLink2Description: https://datasheet.ciiva.com/8883/pyu-rc0603-51-rohs-l-4-8883047.pdf?src-supplier=Avnet; ComponentLink3URL: https://datasheet.ciiva.com/7746/443971-7746425.pdf?src-supplier=Element14; ComponentLink3Description: https://datasheet.ciiva.com/7746/443971-7746425.pdf?src-supplier=Element14; ComponentLink4URL: https://datasheet.ciiva.com/7746/443971-7746426.pdf?src-supplier=Element14; ComponentLink4Description: https://datasheet.ciiva.com/7746/443971-7746426.pdf?src-supplier=Element14; Supplier Part Number 1: 603-RC0603JR-07100RL
footprint R 0603/1608
pins: 1, 2

## RK14J12R0A0C
designator POT?, comment Dual Potentiometer VOL
Potentiometers Dual Unit-Single Shaft (New-TX) For Vol.Control(Reflow); Manufacturer 1: Alps Electric; Manufacturer Part Number 1: RK14J12R0A0C; Resistance: 10kR; Tolerance: 30%; Power Rating: 30mW; Number of Gangs: 2; Number of Turns: 1; Supplier 1: Mouser; Stock 1: 999; Pricing 1: 1=1.91000, 10=1.91000, 25=1.70000, 50=1.59000, 100=1.54000, 500=1.42000, 1000=1.38000, 3000=1.32000, 6000=1.24000, 9000=1.21000, 10000=1.24000 (USD); RoHS: Yes; Mount: Surface Mount; Min Operating Temperature: -25°C; Max Operating Temperature: 70°C; Type: Potentiometer; Packaging: Tape and Reel; Taper: Audio; Termination: SMD/SMT; Composition: Potentiometer; Radiation Hardening: No; ComponentLink1URL: http://www.alps.com/products/WebObjects/catalog.woa/E/HTML/Potentiometer/RotaryPotentiometers/RKJ1/RKJ1_list.html?src-supplier=Avnet; ComponentLink1Description: http://www.alps.com/products/WebObjects/catalog.woa/E/HTML/Potentiometer/RotaryPotentiometers/RKJ1/RKJ1_list.html?src-supplier=Avnet; ComponentLink2URL: http://www.alps.com/WebObjects/catalog.woa/E/HTML/Potentiometer/RotaryPotentiometers/RKJ1/RK14J12R0A0C.html?src-supplier=Mouser; ComponentLink2Description: http://www.alps.com/WebObjects/catalog.woa/E/HTML/Potentiometer/RotaryPotentiometers/RKJ1/RK14J12R0A0C.html?src-supplier=Mouser; ComponentLink3URL: http://www.alps.com/prod/info/E/HTML/Potentiometer/RotaryPotentiometers/RKJ1/RKJ1_list.html?src-supplier=Avnet+Europe; ComponentLink3Description: http://www.alps.com/prod/info/E/HTML/Potentiometer/RotaryPotentiometers/RKJ1/RKJ1_list.html?src-supplier=Avnet+Europe; Supplier Part Number 1: 688-RK14J12R0A0C
footprint RK14J1XR
pins: 1 GND, 2 L_OUT, 2' R_OUT, 3 L_IN, 3' R_IN, SH

## RT0603FRE07374KL
designator R?, comment 374K 1% 1/10W 0603
Thin Film Resistors - SMD 1/10W 374K ohm 1% 50ppm; Manufacturer 1: Yageo; Manufacturer Part Number 1: RT0603FRE07374KL; Resistance: 374kR; Power Rating: 100mW; Voltage Rating: 75V; Temperature Coefficient: 50ppm/°C; Supplier 1: Mouser; Stock 1: 14670; Pricing 1: 1=0,10000, 10=0,05000, 50=0,05000, 100=0,01800, 1000=0,01300, 5000=0,00900, 10000=0,00800, 50000=0,00700 (USD); RoHS: Yes; Case/Package: 0603; Weight: 7.1E-05oz; Case Code (Imperial): 0603; Case Code (Metric): 1608; Min Operating Temperature: -55°C; Max Operating Temperature: 155°C; Packaging: Tape and Reel; Tolerance: 1%; Composition: Thin Film; Number of Terminations: 2; Termination: SMD/SMT; Max Power Dissipation: 100mW; Features: Moisture Resistant; Length: 0.063inch; Height: 0.022inch; Width: 0.031inch; ComponentLink1URL: https://datasheet.ciiva.com/12811/pyu-rt-1-to-0-05-rohs-l-4-12811933.pdf?src-supplier=Mouser; ComponentLink1Description: https://datasheet.ciiva.com/12811/pyu-rt-1-to-0-05-rohs-l-4-12811933.pdf?src-supplier=Mouser; Supplier Part Number 1: 603-RT0603FRE07374KL
footprint R 0603/1608
pins: 1, 2

## RT0603FRE07750KL
designator R?, comment 750K 1% 1/10W 0603
High Precision-High Stability Chip Resistor Thin Film 0603 750kOhm 1% Paper T/R; Manufacturer: Yageo; Manufacturer Part Number: RT0603FRE07750KL; Supplier 1: Mouser; RoHS: No; Stock 1: 20025; Pricing 1: 1=0,09000, 10=0,04500, 100=0,01600, 1000=0,01200, 5000=0,00800, 10000=0,00700, 1=0,10000, 10=0,05000, 100=0,01800, 1000=0,01300, 5000=0,00900, 10000=0,00800 (EUR); Supplier Part Number 1: 603-RT0603FRE07750KL
footprint R 0603/1608
pins: 1, 2

## RT8020GQW
designator U?, comment Dual REG DC_DC
RICHTEK         RT8020GQW            IC, DC-DC CONVERTER, BUCK,1.5MHZ,WDFN-12; Number of Outputs: 2; Output Current: 1A; Min Input Voltage: 2.5V; Max Input Voltage: 5.5V; Min Output Voltage: 600mV; Synchronous Rectifier: Yes; Output Type: Adjustable; Output Configuration: Positive; Supplier 1: Digi-Key; Manufacturer 1: Richtek; Manufacturer Part Number 1: RT8020GQW; Stock 1: 10289; Pricing 1: 1=1,87000, 10=1,67800, 25=1,58280, 100=1,34860, 250=1,26632, 500=1,10802 (USD); RoHS: Yes; Mount: Surface Mount; Case/Package: DFN; Number of Pins: 12; Min Operating Temperature: -40°C; Max Operating Temperature: 85°C; Package Quantity: 1; Packaging: Cut Tape; Switching Frequency: 1.5MHz; Max Output Voltage: 5.5V; Max Output Current: 1A; Current - Output 1: 1A; Current - Output 2: 1A; Voltage - Output 1: 5.5V; Voltage - Output 2: 5.5V; Lead Free: Lead Free; REACH SVHC: Unknown; ComponentLink1URL: https://datasheet.ciiva.com/22748/1756328-22748701.pdf?src-supplier=Element14; ComponentLink1Description: https://datasheet.ciiva.com/22748/1756328-22748701.pdf?src-supplier=Element14; Supplier Part Number 1: 1028-1032-1-ND
footprint SON45P300X300X80-13N-D
pins: 1 VIN2, 2 LX2, 3 GND_1, 4 FB1, 5 NC1, 6 EN1, 7 VIN1, 8 LX1, 9 GND_2, 10 FB2, 11 NC2, 12 EN2, 13 EPAD

## SFV5R-2STE1HLF
designator J?, comment TOP 5PIN 0.5Pitch 3.1mm entry  Supplier Part Number 1: 649-SFV5R-2STE1HLF
CONN FFC FPC TOP 5POS 0.50MM R/A; Manufacturer 1: Amphenol FCI; Manufacturer Part Number 1: SFV5R-2STE1HLF; Actuator Material: Glass,Polyphenylene; Voltage Rating: 50V; Current Rating: 500mA; Contact Resistance: 30mR; Number of Positions: 5; Insulation Resistance: 100MR; Wire/Cable Type: Straight; Pitch: 0.5mm; Supplier 1: Mouser; Stock 1: 7850; Pricing 1: 1=0,56000, 10=0,42600, 100=0,40800, 500=0,35500, 1000=0,29300, 3000=0,26600 (USD); RoHS: Yes; Mount: Surface Mount; Contact Material: Bronze; Contact Plating: Tin; Housing Color: Black; Housing Material: Polyamide; Min Operating Temperature: -55°C; Max Operating Temperature: 105°C; Packaging: Tape and Reel; Package Quantity: 3000; Number of Rows: 1; Termination: Solder; Contact Location: Top; Max Voltage Rating (AC): 50V; Number of Contacts: 5; Orientation: Right Angle; Length: 8mm; Depth: 4.9mm; Radiation Hardening: No; Flammability Rating: UL94 V-0; ComponentLink1URL: https://datasheet.ciiva.com/669/10112793-669974.pdf?src-supplier=Digi-Key; ComponentLink1Description: https://datasheet.ciiva.com/669/10112793-669974.pdf?src-supplier=Digi-Key; ComponentLink2URL: https://datasheet.ciiva.com/669/10112793-669973.pdf?src-supplier=Digi-Key; ComponentLink2Description: https://datasheet.ciiva.com/669/10112793-669973.pdf?src-supplier=Digi-Key; ComponentLink3URL: https://datasheet.ciiva.com/669/10112793-669975.pdf?src-supplier=Digi-Key; ComponentLink3Description: https://datasheet.ciiva.com/669/10112793-669975.pdf?src-supplier=Digi-Key; ComponentLink4URL: https://datasheet.ciiva.com/10370/10112793-10370063.pdf?src-supplier=Avnet; ComponentLink4Description: https://datasheet.ciiva.com/10370/10112793-10370063.pdf?src-supplier=Avnet
footprint SFV5R-2STE1HLF
pins: 1 VCC, 2 U/D, 3 BTN, 4 GND, 5 L/R, 6 SHD, 7 SHD

## SKHHLQA010
designator SW?, comment ALPS SWITCH ON_OFF  Supplier Part Number 1: 688-SKHHLQ
Switch Tactile N.O. SPST Round Button PC Pins 0.05A 12VDC 0.98N Thru-Hole Bulk; Manufacturer 1: Alps Electric; Manufacturer Part Number 1: SKHHLQA010; Mechanical Life: 1000000Cycles; Max Voltage Rating (DC): 12V; Contact Current Rating: 50mA; Contact Resistance: 100mR; Illumination Type: Illuminated; Actuator Length: 5.8mm; Supplier 1: Mouser; RoHS: Yes; Category: Tactile Switches; Stock 1: 1697; Pricing 1: 1=0,38000, 50=0,32000, 100=0,28300, 500=0,25800, 1000=0,25800, 2000=0,25800 (USD); Mount: Through Hole; Color: Black; Min Operating Temperature: -20°C; Max Operating Temperature: 85°C; Operating Force: 0.98N; Throw Configuration: SPST; Termination: PC Pins; Voltage Rating (DC): 12V; Current Rating: 50mA; Package Quantity: 1000; Packaging: Bulk; Max Current Rating: 50mA; Electrical Life: 1000000Cycles; Orientation: Right Angle; Length: 7.5mm; Depth: 12.35mm; Radiation Hardening: No; Lead Free: Lead Free; ComponentLink1URL: https://datasheet.ciiva.com/6797/1582312-6797697.pdf?src-supplier=Newark; ComponentLink1Description: https://datasheet.ciiva.com/6797/1582312-6797697.pdf?src-supplier=Newark; ComponentLink2URL: https://datasheet.ciiva.com/25620/0900766b810d5f21-25620205.pdf?src-supplier=RSComponents; ComponentLink2Description: https://datasheet.ciiva.com/25620/0900766b810d5f21-25620205.pdf?src-supplier=RSComponents; ComponentLink3URL: https://datasheet.ciiva.com/26906/getdatasheetpartid-652171-26906222.pdf?src-supplier=Verical; ComponentLink3Description: https://datasheet.ciiva.com/26906/getdatasheetpartid-652171-26906222.pdf?src-supplier=Verical; ComponentLink4URL: https://datasheet.ciiva.com/16156/skhh-16156038.pdf?src-supplier=Onlinecomponents.com; ComponentLink4Description: https://datasheet.ciiva.com/16156/skhh-16156038.pdf?src-supplier=Onlinecomponents.com; ComponentLink5URL: https://datasheet.ciiva.com/14142/03564812-14142487.pdf?src-supplier=Distrelec; ComponentLink5Description: https://datasheet.ciiva.com/14142/03564812-14142487.pdf?src-supplier=Distrelec
footprint SKHHLQA010
pins: 1, 2, 3 SH, 4 SH

## SLM-104-01-T-S
designator J?, comment 1.27mm Pitch 4POS header  Supplier Part Number 1: 200-SLM10401TS
Conn Socket Strip SKT 4 POS 1.27mm Solder ST Thru-Hole Tube; Manufacturer 1: Samtec; Manufacturer Part Number 1: SLM-104-01-T-S; Contact Resistance: 10mR; Number of Contacts: 4; Gender: Female; Supplier 1: Mouser; Stock 1: 665; Pricing 1: 1=0,57000, 10=0,43700, 100=0,33400, 250=0,29600, 500=0,26700, 1000=0,23700 (USD); RoHS: Yes; Contact Plating: Tin; Contact Material: Bronze; Housing Color: Black; Housing Material: Polyester; Min Operating Temperature: -55°C; Max Operating Temperature: 105°C; Number of Rows: 1; Packaging: Rail/Tube; Termination: Solder; Orientation: Straight; Length: 5.08mm; Pitch: 1.27mm; Depth: 2.54mm; ComponentLink1URL: http://components.arrow.com/part/dataview/0323_03816282?src-supplier=Arrow+Europe; ComponentLink1Description: http://components.arrow.com/part/dataview/0323_03816282?src-supplier=Arrow+Europe; ComponentLink2URL: http://www.samtec.com/documents/webfiles/pdf/SMS_TH.PDF?src-supplier=Avnet; ComponentLink2Description: http://www.samtec.com/documents/webfiles/pdf/SMS_TH.PDF?src-supplier=Avnet
footprint SLM-104-01-T-S
pins: 1, 2, 3, 4

## SLW-106-01-T-D
designator J?, comment 6POS 2.54mm  Supplier Part Number 1: 200-SLW10601TD
CONN RCPT 6POS 0.1 TIN PCB; Manufacturer 1: Samtec; Manufacturer Part Number 1: SLW-106-01-T-D; Number of Contacts: 12; Contact Resistance: 10mR; Max Voltage Rating (AC): 550V; Max Current Rating: 7.1A; Connector Type: Receptacle; Row Spacing: 0.1inch; ComponentLink1URL: https://datasheet.ciiva.com/413/ces-dmkt-413390.pdf?src-supplier=Digi-Key; ComponentLink1Description: https://datasheet.ciiva.com/413/ces-dmkt-413390.pdf?src-supplier=Digi-Key; Supplier 1: Mouser; Stock 1: 228; Pricing 1: 1=1,32000, 10=1,10000, 50=1,10000, 100=0,81600, 250=0,73500, 500=0,65300, 1000=0,59200, 2500=0,57200, 5000=0,52100, 10000=0,51000 (USD); RoHS: Yes; Mount: Through Hole; Contact Plating: Tin; Color: Black; Contact Material: Bronze; Housing Color: Black; Housing Material: Polyester; Min Operating Temperature: -55°C; Max Operating Temperature: 105°C; Number of Rows: 2; Termination: Solder; Packaging: Bulk; Number of Positions: 12; Gender: Receptacle; Orientation: Straight; Package Quantity: 1; Voltage Rating (AC): 550V; Length: 15.24mm; Pitch: 2.54mm; Depth: 4.95mm; Width: 4.95mm; Radiation Hardening: No; REACH SVHC: No SVHC; Lead Free: Lead Free; ComponentLink2URL: https://datasheet.ciiva.com/413/slw-mkt-413481.pdf?src-supplier=Digi-Key; ComponentLink2Description: https://datasheet.ciiva.com/413/slw-mkt-413481.pdf?src-supplier=Digi-Key; ComponentLink3URL: https://datasheet.ciiva.com/36534/ces-36534873.pdf?src-supplier=Onlinecomponents.com; ComponentLink3Description: https://datasheet.ciiva.com/36534/ces-36534873.pdf?src-supplier=Onlinecomponents.com
footprint SHDR6W64P254_2X6_762X559X508P
pins: 1, 2, 3, 4, 5, 6, 7, 8, 9, 10, 11, 12

## SM02B-SRSS-TB(LF)(SN)
designator J?, comment JST 2PIN 1mm  Supplier Part Number 1: C160402
Conn Shrouded Header HDR 2 POS 1mm Solder RA SMD T/R; Manufacturer Part Number: SM02B-SRSS-TB(LF)(SN); Number of Contacts: 2; Connector Type: Header,Male Pin; Voltage Rating: 50V; Current Rating: 700mA; Insulation Resistance: 100MR; Contact Resistance: 40mR; Max Current Rating: 1A; Supplier 1: LCSC; Manufacturer: JST; RoHS: Yes; Category: Connectors; Stock 1: 132665; Pricing 1: 5=0,15060, 50=0,10760, 150=0,09980, 500=0,09210, 2500=0,08690, 5000=0,08610, 5=0,14200, 50=0,10140, 150=0,09410, 500=0,08680, 2500=0,08190, 5000=0,08110, 5=0,74000, 50=0,52860, 150=0,49050, 500=0,45250, 2500=0,42710, 5000=0,42290, 5=0,69300, 50=0,49500, 150=0,45940, 500=0,42370, 2500=0,40000, 5000=0,39600, 5=0,09300, 50=0,06640, 150=0,06170, 500=0,05690, 2500=0,05370, 5000=0,05320, 5=0,08390, 50=0,06000, 150=0,05560, 500=0,05130, 2500=0,04840, 5000=0,04800, 5=0,81260, 50=0,58040, 150=0,53860, 500=0,49680, 2500=0,46900, 5000=0,46430, 5=11,29440, 50=8,06740, 150=7,48650, 500=6,90570, 2500=6,51850, 5000=6,45400, 5=0,44900, 50=0,32070, 150=0,29760, 500=0,27450, 2500=0,25910, 5000=0,25660, 5=7,48280, 50=5,34480, 150=4,96000, 500=4,57520, 2500=4,31860, 5000=4,27590, 5=0,97450, 50=0,69600, 150=0,64590, 500=0,59580, 2500=0,56240, 5000=0,55680, 5=0,14600, 50=0,10430, 150=0,09680, 500=0,08930, 2500=0,08430, 5000=0,08340, 5=0,10484, 50=0,07489, 150=0,06950, 500=0,06410, 2500=0,06051, 5000=0,05991 (AUD); Mount: Surface Mount; Contact Material: Copper Alloy,Copper; Housing Color: Beige; Housing Material: Polyamide; Color: Natural; Contact Plating: Tin,Copper,Lead; Material: Polyamide; Contact Shape: Square; Insulation Material: Nylon; Insulation Color: Natural; Min Operating Temperature: -25°C; Max Operating Temperature: 85°C; Orientation: Right Angle; Termination: Solder; Number of Rows: 1; Number of Positions: 2; Packaging: Tape and Reel; Max Voltage Rating (AC): 50V; Fastening Type: Push,Pull; Voltage Rating (AC): 50V; Length: 4mm; Pitch: 1mm; Depth: 4.95mm; Lead Pitch: 1mm; Lead Free: Lead Free; Flammability Rating: UL94 V-0; REACH SVHC: No SVHC; ComponentLink1URL: https://datasheet.ciiva.com/26924/getdatasheetpartid-640850-26924055.pdf?src-supplier=Verical; ComponentLink1Description: https://datasheet.ciiva.com/26924/getdatasheetpartid-640850-26924055.pdf?src-supplier=Verical; ComponentLink2URL: https://datasheet.ciiva.com/712/esr-712467.pdf?src-supplier=Digi-Key; ComponentLink2Description: https://datasheet.ciiva.com/712/esr-712467.pdf?src-supplier=Digi-Key; ComponentLink3URL: https://datasheet.ciiva.com/712/esr-712468.pdf?src-supplier=Digi-Key; ComponentLink3Description: https://datasheet.ciiva.com/712/esr-712468.pdf?src-supplier=Digi-Key; ComponentLink4URL: https://datasheet.ciiva.com/730/esr-730600.pdf?src-supplier=Digi-Key; ComponentLink4Description: https://datasheet.ciiva.com/730/esr-730600.pdf?src-supplier=Digi-Key; ComponentLink5URL: https://datasheet.ciiva.com/8052/91630-8052284.pdf?src-supplier=Element14; ComponentLink5Description: https://datasheet.ciiva.com/8052/91630-8052284.pdf?src-supplier=Element14; ComponentLink6URL: https://datasheet.ciiva.com/16391/sm02b-srss-tblfsn-16391308.pdf?src-supplier=Future+Electronics; ComponentLink6Description: https://datasheet.ciiva.com/16391/sm02b-srss-tblfsn-16391308.pdf?src-supplier=Future+Electronics
footprint SM02B-SRSS-TB
pins: 1, 2, MH1, MH2

## SM04B-SRSS-TB(LF)(SN)
designator J?, comment JST 4 Pines 1Pitch  Supplier Part Number 1: C160404
JST (JAPAN SOLDERLESS TERMINALS) - SM04B-SRSS-TB(LF)(SN) - Wire-To-Board Connector, 1 mm, 4 Contacts, Header, SH Series, Surface Mount, 1 Rows; Number of Positions: 4; Connector Type: Male Pin; Contact Resistance: 40mR; Max Current Rating: 1A; Max Voltage Rating (DC): 50V; Pitch: 0.039inch; Supplier 1: LCSC; Manufacturer: JST; Manufacturer Part Number: SM04B-SRSS-TB(LF)(SN); RoHS: Yes; Category: Connectors; Stock 1: 162024; Pricing 1: 1=0,20250, 10=0,14460, 30=0,13420, 100=0,12380, 500=0,11680, 1000=0,11570, 1=0,19020, 10=0,13590, 30=0,12610, 100=0,11630, 500=0,10980, 1000=0,10870, 1=0,98410, 10=0,70290, 30=0,65230, 100=0,60170, 500=0,56800, 1000=0,56230, 1=0,92240, 10=0,65890, 30=0,61140, 100=0,56400, 500=0,53240, 1000=0,52710, 1=0,12380, 10=0,08840, 30=0,08210, 100=0,07570, 500=0,07140, 1000=0,07070, 1=0,11310, 10=0,08080, 30=0,07500, 100=0,06920, 500=0,06530, 1000=0,06460, 1=1,07890, 10=0,77060, 30=0,71510, 100=0,65970, 500=0,62270, 1000=0,61650, 1=14,99070, 10=10,70760, 30=9,93670, 100=9,16580, 500=8,65180, 1000=8,56600, 1=0,59610, 10=0,42580, 30=0,39510, 100=0,36450, 500=0,34400, 1000=0,34060, 1=9,74550, 10=6,96100, 30=6,45990, 100=5,95870, 500=5,62450, 1000=5,56880, 1=1,29840, 10=0,92740, 30=0,86070, 100=0,79390, 500=0,74940, 1000=0,74190, 1=0,19390, 10=0,13850, 30=0,12860, 100=0,11860, 500=0,11190, 1000=0,11080, 1=0,13921, 10=0,09943, 30=0,09227, 100=0,08511, 500=0,08034, 1000=0,07955 (AUD); Mount: Surface Mount; Color: Natural; Contact Plating: Tin,Copper; Contact Material: Copper Alloy; Housing Material: Polyamide; Housing Color: Beige; Min Operating Temperature: -25°C; Max Operating Temperature: 85°C; Number of Rows: 1; Packaging: Tape and Reel; Termination: Solder; Number of Contacts: 4; Orientation: Right Angle; Max Voltage Rating (AC): 50V; Length: 6mm; Depth: 4.95mm; Lead Free: Lead Free; ComponentLink1URL: https://datasheet.ciiva.com/26894/getdatasheetpartid-499363-26894945.pdf?src-supplier=Verical; ComponentLink1Description: https://datasheet.ciiva.com/26894/getdatasheetpartid-499363-26894945.pdf?src-supplier=Verical; ComponentLink2URL: https://datasheet.ciiva.com/26894/getdatasheetpartid-640736-26894676.pdf?src-supplier=Verical; ComponentLink2Description: https://datasheet.ciiva.com/26894/getdatasheetpartid-640736-26894676.pdf?src-supplier=Verical; ComponentLink3URL: https://datasheet.ciiva.com/16487/jstsm04b-srss-tb-lf-sn-16487222.pdf?src-supplier=Future+Electronics; ComponentLink3Description: https://datasheet.ciiva.com/16487/jstsm04b-srss-tb-lf-sn-16487222.pdf?src-supplier=Future+Electronics
footprint SM04B-SRSS-TB(LF)(SN)
pins: 1, 2, 3, 4, SH, SH

## ST-SELECT
designator PAD?, comment Start and select Footprint
footprint DMG-SEL-START
pins: 1, 2

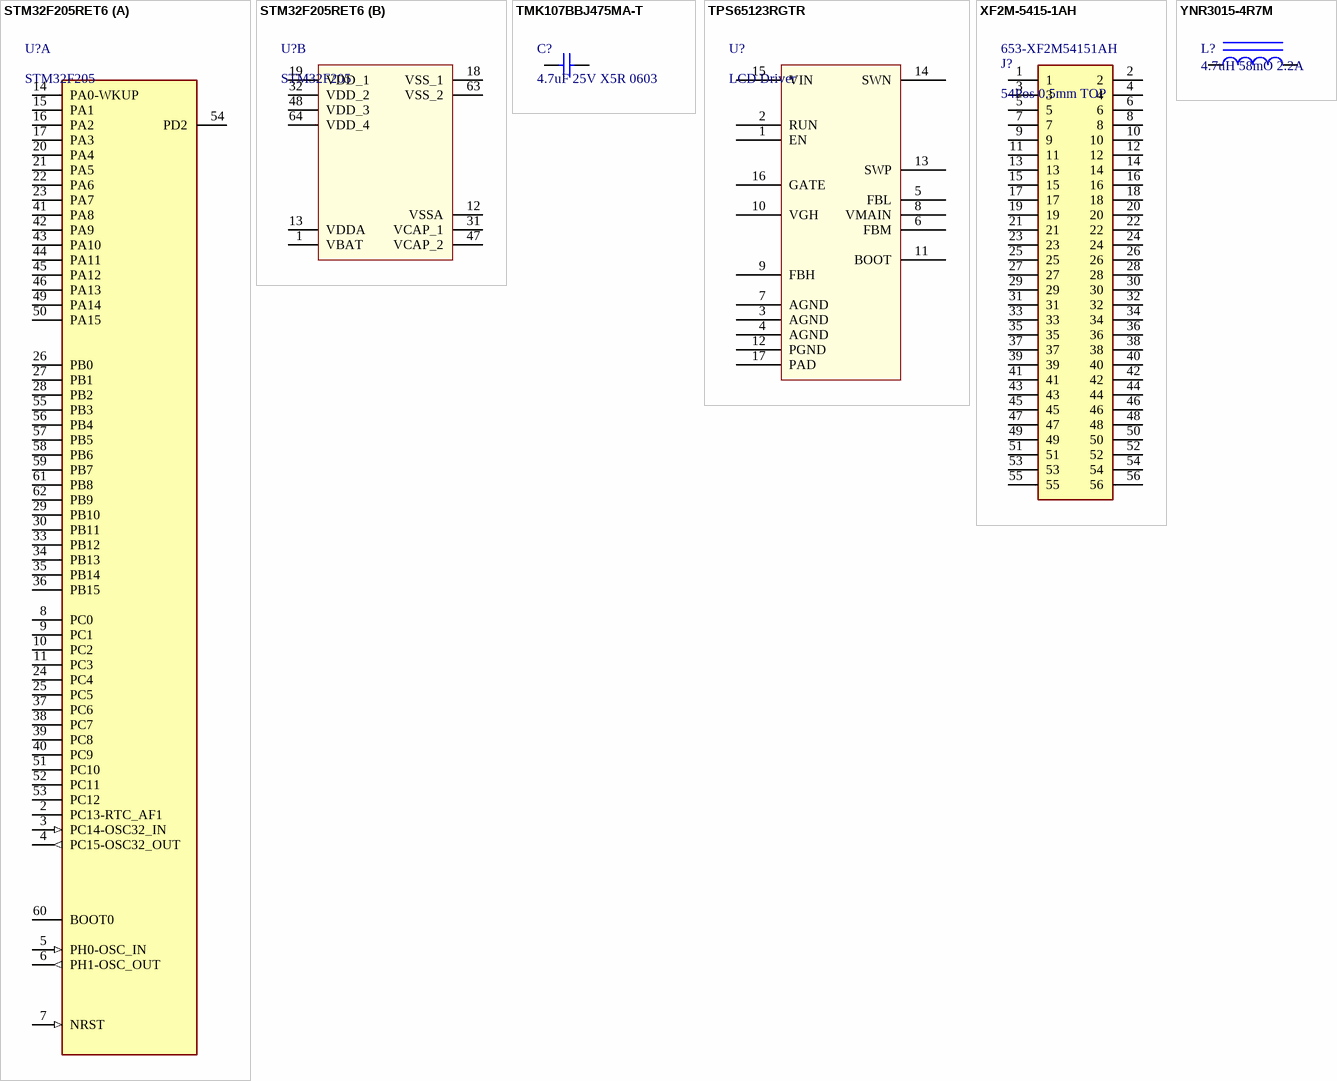
[diagram p2: symbols STM32F205RET6 to YNR3015-4R7M]